# Altium schematic symbol library IRM-03-5.SchLib: 1 symbol
Pins are listed as number, name and electrical type; pins without a type are passive.

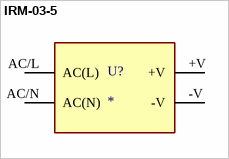
[diagram p0: symbol IRM-03-5]

## IRM-03-5
designator U?
AC-DC Single output Encapsulated power supply; Output 5Vdc at 0.6A; PCB mount, miniature size; MP: IRM-03-5; MF: {'manufacturer': u'MEAN WELL'}; Package: None; Price: None; Value: *; Availability: Unavailable
footprint footprint_IRM-03-5
pins: +V (power), -V (power), AC/L AC(L) (power), AC/N AC(N) (power)